# Altium footprint library B.PcbLib: 29 footprints (part 1 of 2)
Each footprint in its own frame and in the unit in brackets; x right, y up, seen from the top. Pads: shape width x height; smd on the part's side, far side on the other; paste and mask are expansions set on the pad; w line width, h text height; cw(c..) or ccw(c..) is an arc to the next point about the centre after c.
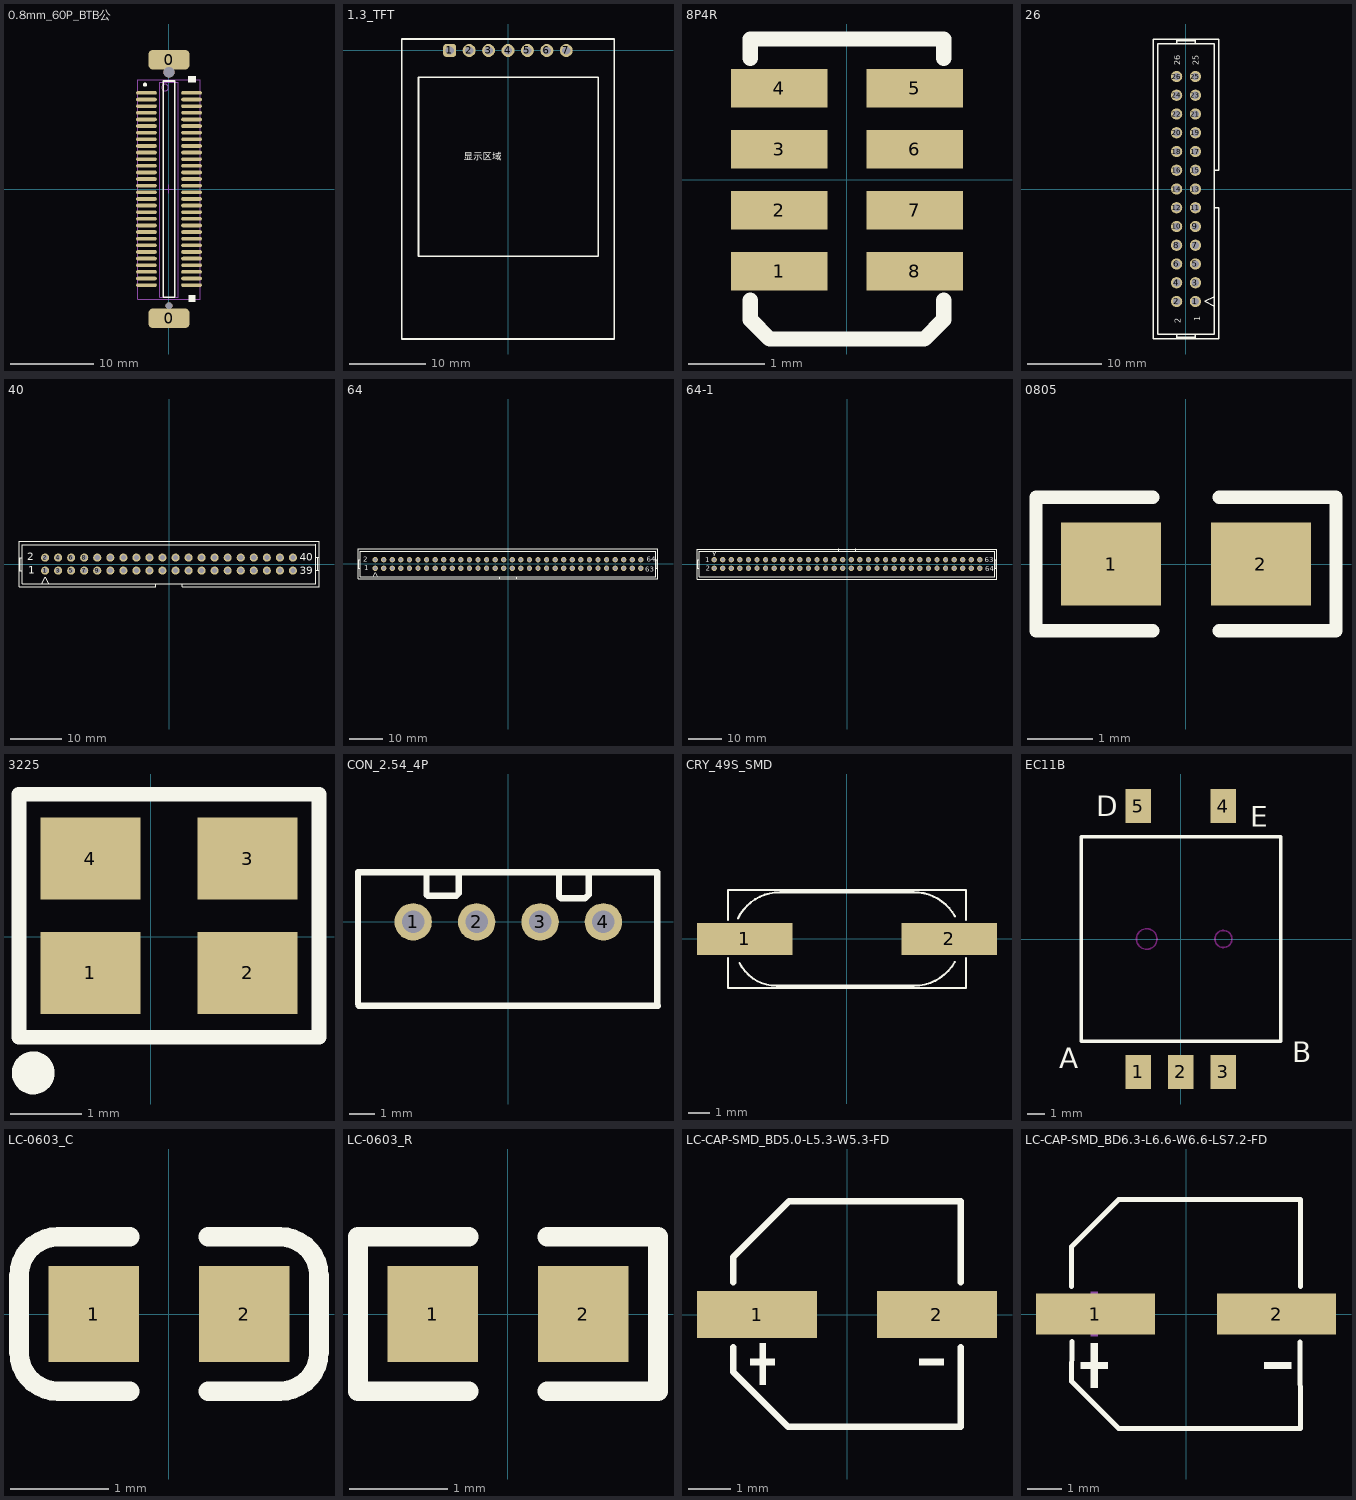
[diagram p0: the footprints below, top view; thin cyan lines are the x and y axes]

## 0.8mm_60P_BTB公 [mm] "0.8?"
height 2
pads (62):
  rrect50% 5x2.4 smd: 0(0,-15.6) 0(0,15.6)
  oval 2.5x0.45 smd: 1(2.725,-11.6) 2(2.725,-10.8) 3(2.725,-10) 4(2.725,-9.2) 5(2.725,-8.4) 6(2.725,-7.6) 7(2.725,-6.8) 8(2.725,-6) 9(2.725,-5.2) 10(2.725,-4.4) 11(2.725,-3.6) 12(2.725,-2.8) 13(2.725,-2) 14(2.725,-1.2) 15(2.725,-0.4) 16(2.725,0.4) 17(2.725,1.2) 18(2.725,2) 19(2.725,2.8) 20(2.725,3.6) 21(2.725,4.4) 22(2.725,5.2) 23(2.725,6) 24(2.725,6.8) 25(2.725,7.6) 26(2.725,8.4) 27(2.725,9.2) 28(2.725,10) 29(2.725,10.8) 30(2.725,11.6) 31(-2.725,11.6) 32(-2.725,10.8) 33(-2.725,10) 34(-2.725,9.2) 35(-2.725,8.4) 36(-2.725,7.6) 37(-2.725,6.8) 38(-2.725,6) 39(-2.725,5.2) 40(-2.725,4.4) 41(-2.725,3.6) 42(-2.725,2.8) 43(-2.725,2) 44(-2.725,1.2) 45(-2.725,0.4) 46(-2.725,-0.4) 47(-2.725,-1.2) 48(-2.725,-2) 49(-2.725,-2.8) 50(-2.725,-3.6) 51(-2.725,-4.4) 52(-2.725,-5.2) 53(-2.725,-6) 54(-2.725,-6.8) 55(-2.725,-7.6) 56(-2.725,-8.4) 57(-2.725,-9.2) 58(-2.725,-10) 59(-2.725,-10.8) 60(-2.725,-11.6)
via 0,14.1 diameter 1.3 hole 1.3
via 0,-14.1 diameter 0.8 hole 0.8
Top Overlay:
  circle w0.25: c-2.894,12.593 r0.125
  rectangle: 2.311,12.827 3.277,13.665
  rectangle: 2.337,-13.62 3.226,-12.807
  lines w0.2: -0.7,-13.05 0.7,-13.05 0.7,13.03 -0.7,13.03 -0.7,-13.05
Mechanical 13:
  circle w0.1: c-0.476,12.243 r0.4
  lines w0.1: -1.1,-13.05 1.1,-13.05 1.1,12.852 -1.1,12.852 -1.1,-13.05
Mechanical 15:
  lines w0.05: -3.8,-13.3 3.8,-13.3 3.8,13.183 -3.8,13.183 -3.8,-13.3
  lines w0.1: -0.5,0 0.5,0 ; 0,-0.508 0,0.492
3D body: height 2, standoff 0.1, extent -1.118,-13.05 1.1,11.755

## 1.3_TFT [mm] "240*240像?"
height 2
pads (7):
  rrect50% 1.699x1.699 hole 1.1 mask+0.051: 1(-7.62,0)
  round 1.699 hole 1.1 mask+0.051: 2(-5.08,0) 3(-2.54,0) 4(0,0) 5(2.54,0) 6(5.08,0) 7(7.62,0)
Top Overlay:
  lines w0.203: -13.89,-37.72 -13.89,1.5 13.89,1.5 13.89,-37.72 ; -13.89,-37.718 13.89,-37.718 ; -11.7,-26.9 -11.7,-3.5 11.7,-3.5 ; -11.675,-26.9 11.725,-26.9 ; 11.77,-26.9 11.77,-3.5
  text "显示区域" at -5.817,-14.624 h1.52

## 8P4R [mil]
pads (8):
  rect 50x20 smd: 1(-35,-47.24) 2(-35,-15.75) 3(-35,15.75) 4(-35,47.24) 5(35,47.24) 6(35,15.75) 7(35,-15.75) 8(35,-47.24)
Top Overlay:
  lines w8: -50,-62.24 -50,-72.24 -40,-82.24 40,-82.24 50,-72.24 50,-62.24 ; -50,62.76 -50,72.76 50,72.76 50,62.76

## 26 [mil]
pads (26):
  round 60 hole 39.37: 1(50,-600) 2(-50,-600) 3(50,-500) 4(-50,-500) 5(50,-400) 6(-50,-400) 7(50,-300) 8(-50,-300) 9(50,-200) 10(-50,-200) 11(50,-100) 12(-50,-100) 13(50,0) 14(-50,0) 15(50,100) 16(-50,100) 17(50,200) 18(-50,200) 19(50,300) 20(-50,300) 21(50,400) 22(-50,400) 23(50,500) 24(-50,500) 25(50,600) 26(-50,600)
Top Overlay:
  lines w7.87: 175,-800 175,-100 ; 175,100 175,800
  lines w8: -50,-800 -50,-775 ; -50,-791.67 50,-791.67 ; -50,775 -50,800 ; -50,791.67 50,791.67 ; 50,-800 50,-775 ; 50,775 50,800 ; 150,-775 -150,-775 -150,775 150,775 150,-774 ; 150,-625 100,-600 150,-575 ; 175,-800 -175,-800 -175,800 175,800 ; 175,-100 150,-100 150,100 175,100
  text "1" at 76,-706 h31.5
  text "2" at -29,-717 h31.5
  text "25" at 68,659 h31.5
  text "26" at -31,659 h31.5

## 40 [mil]
pads (40):
  round 62 hole 39.37: 1(-950,-50) 2(-950,50) 3(-850,-50) 4(-850,50) 5(-750,-50) 6(-750,50) 7(-650,-50) 8(-650,50) 9(-550,-50) 10(-550,50) 11(-450,-50) 12(-450,50) 13(-350,-50) 14(-350,50) 15(-250,-50) 16(-250,50) 17(-150,-50) 18(-150,50) 19(-50,-50) 20(-50,50) 21(50,-50) 22(50,50) 23(150,-50) 24(150,50) 25(250,-50) 26(250,50) 27(350,-50) 28(350,50) 29(450,-50) 30(450,50) 31(550,-50) 32(550,50) 33(650,-50) 34(650,50) 35(750,-50) 36(750,50) 37(850,-50) 38(850,50) 39(950,-50) 40(950,50)
Top Overlay:
  lines w7.87: -1150,-175 -100,-175 ; 100,-175 1150,-175
  lines w8: -1150,-175 -1150,175 1150,175 ; -1150,-50 -1125,-50 ; -1150,50 -1125,50 ; -1141.67,-50 -1141.67,50 ; -975,-150 -950,-100 -925,-150 ; -100,-175 -100,-150 100,-150 100,-175 ; 75,-150 1125,-150 ; 200,-150 -1125,-150 -1125,150 1125,150 ; 1125,-148 1125,152 ; 1125,-48 1150,-48 ; 1125,52 1150,52 ; 1141.67,-48 1141.67,52 ; 1150,-173 1150,177
  text "40" at 1003,25 h60
  text "39" at 1003,-78 h60
  text "2" at -1087,29 h60
  text "1" at -1078,-75 h60

## 64 [mil]
pads (64):
  round 62 hole 39.37: 1(-1550,-50) 2(-1550,50) 3(-1450,-50) 4(-1450,50) 5(-1350,-50) 6(-1350,50) 7(-1250,-50) 8(-1250,50) 9(-1150,-50) 10(-1150,50) 11(-1050,-50) 12(-1050,50) 13(-950,-50) 14(-950,50) 15(-850,-50) 16(-850,50) 17(-750,-50) 18(-750,50) 19(-650,-50) 20(-650,50) 21(-550,-50) 22(-550,50) 23(-450,-50) 24(-450,50) 25(-350,-50) 26(-350,50) 27(-250,-50) 28(-250,50) 29(-150,-50) 30(-150,50) 31(-50,-50) 32(-50,50) 33(50,-50) 34(50,50) 35(150,-50) 36(150,50) 37(250,-50) 38(250,50) 39(350,-50) 40(350,50) 41(450,-50) 42(450,50) 43(550,-50) 44(550,50) 45(650,-50) 46(650,50) 47(750,-50) 48(750,50) 49(850,-50) 50(850,50) 51(950,-50) 52(950,50) 53(1050,-50) 54(1050,50) 55(1150,-50) 56(1150,50) 57(1250,-50) 58(1250,50) 59(1350,-50) 60(1350,50) 61(1450,-50) 62(1450,50) 63(1550,-50) 64(1550,50)
Top Overlay:
  lines w7.87: -1750,-175 -600,-175 ; -597.91,-175 1748.62,-175
  lines w8: -1750,-175 -1750,175 1748.11,175 ; -1750,-50 -1725,-50 ; -1750,50 -1725,50 ; -1741.67,-50 -1741.67,50 ; -1575,-150 -1550,-100 -1525,-150 ; -525,-150 1723.89,-150 ; -400,-150 -1725,-150 -1725,150 1723.89,150 ; -97.88,-175.12 -97.88,-150.12 102.12,-150.12 102.12,-175.12 ; 1725,-150 1725,150 ; 1725,-50 1750,-50 ; 1725,50 1750,50 ; 1741.67,-50 1741.67,50 ; 1750,-175 1750,175
  text "1" at -1678,-75 h60
  text "2" at -1687,29 h60
  text "64" at 1617.87,28.57 h60
  text "63" at 1603.22,-90.07 h60

## 64-1 [mil]
pads (64):
  round 62 hole 39.37: 1(-1550,50) 2(-1550,-50) 3(-1450,50) 4(-1450,-50) 5(-1350,50) 6(-1350,-50) 7(-1250,50) 8(-1250,-50) 9(-1150,50) 10(-1150,-50) 11(-1050,50) 12(-1050,-50) 13(-950,50) 14(-950,-50) 15(-850,50) 16(-850,-50) 17(-750,50) 18(-750,-50) 19(-650,50) 20(-650,-50) 21(-550,50) 22(-550,-50) 23(-450,50) 24(-450,-50) 25(-350,50) 26(-350,-50) 27(-250,50) 28(-250,-50) 29(-150,50) 30(-150,-50) 31(-50,50) 32(-50,-50) 33(50,50) 34(50,-50) 35(150,50) 36(150,-50) 37(250,50) 38(250,-50) 39(350,50) 40(350,-50) 41(450,50) 42(450,-50) 43(550,50) 44(550,-50) 45(650,50) 46(650,-50) 47(750,50) 48(750,-50) 49(850,50) 50(850,-50) 51(950,50) 52(950,-50) 53(1050,50) 54(1050,-50) 55(1150,50) 56(1150,-50) 57(1250,50) 58(1250,-50) 59(1350,50) 60(1350,-50) 61(1450,50) 62(1450,-50) 63(1550,50) 64(1550,-50)
Top Overlay:
  lines w7.87: -1750,175 -600,175 ; -597.91,175 1748.62,175
  lines w8: -1750,-50 -1725,-50 ; -1750,50 -1725,50 ; -1750,175 -1750,-175 1748.11,-175 ; -1741.67,-50 -1741.67,50 ; -1575,150 -1550,100 -1525,150 ; -525,150 1723.89,150 ; -400,150 -1725,150 -1725,-150 1723.89,-150 ; -97.88,175.12 -97.88,150.12 102.12,150.12 102.12,175.12 ; 1725,-150 1725,150 ; 1725,-50 1750,-50 ; 1725,50 1750,50 ; 1741.67,-50 1741.67,50 ; 1750,-175 1750,175
  text "63" at 1604.32,20.61 h60
  text "64" at 1612.8,-84.83 h60
  text "2" at -1650.35,-78.68 h60
  text "1" at -1651.88,19.83 h60

## 0805 [mil]
pads (2):
  rect 60x50 smd: 1(-45,0) 2(45,0)
Top Overlay:
  lines w8: -20,-40 -90,-40 -90,40 -20,40 ; 20,-40 90,-40 90,40 20,40

## 3225 [mm]
pads (4):
  rect 1.4x1.15 smd: 1(-0.846,-0.507) 2(1.354,-0.507) 3(1.354,1.093) 4(-0.846,1.093)
Top Overlay:
  circle w0.3: c-1.646,-1.907 r0.15
  lines w0.203: -1.846,-1.407 -1.846,1.993 2.354,1.993 2.354,-1.407 -1.846,-1.407
3D body: height 0.61, standoff 0, extent -1.346,-0.957 1.854,1.543

## CON_2.54_4P [mm]
height 2
pads (4):
  round 1.5 hole 0.9: 1(-3.81,0) 2(-1.27,0) 3(1.27,0) 4(3.81,0)
Top Overlay:
  lines w0.254: -6.02,-3.277 -6.02,1.981 5.969,1.981 5.969,-3.302 ; -5.994,-3.353 5.994,-3.353 ; -3.277,1.981 -3.277,1.092 -3.226,1.041 -2.083,1.041 -1.981,1.143 -1.981,1.956 ; 2.032,1.956 2.032,1.016 2.108,0.94 3.073,0.94 3.226,1.092 3.226,1.956

## CRY_49S_SMD [mm]
height 2
pads (2):
  rect 4.5x1.5 smd: 1(-4.8,0) 2(4.8,0)
Top Overlay:
  lines w0.1: -5.6,-0.901 -5.6,-2.3 5.6,-2.3 5.6,-0.901 ; -5.6,0.889 -5.6,2.3 5.6,2.3 5.6,0.901 ; -5.123,0.974 cw(c-3.15,0) -3.15,2.2 3.15,2.2 cw(c3.15,0) 5.073,1.069 ; -5.047,-1.127 ccw(c-3.319,-0.272) -3.319,-2.2 3.15,-2.2 ccw(c3.15,0) 5.067,-1.08

## EC11B [mm] "编?"
pads (5):
  rect 1.5x2 smd: 1(-2.5,-7.8) 2(0,-7.8) 3(2.5,-7.8) 4(2.5,7.8) 5(-2.5,7.8)
Top Overlay:
  lines w0.2: -5.85,-6 -5.85,6 5.85,6 5.85,-6 -5.85,-6
  text "E" at 4.072,6.594 h1.2
  text "D" at -4.949,7.189 h1.2
  text "B" at 6.529,-7.219 h1.2
  text "A" at -7.122,-7.587 h1.2
Keep-Out Layer:
  circle w0.1: c2.5,0 r0.5
  circle w0.1: c-2,0 r0.6

## LC-0603_C [mm]
height 2
pads (2):
  rect 0.93x0.98 smd: 1(-0.77,0) 2(0.77,0)
Top Overlay:
  lines w0.2: -0.4,-0.79 -1.135,-0.79 cw(c-1.135,-0.39) -1.535,-0.39 -1.535,0.39 cw(c-1.135,0.39) -1.135,0.79 -0.4,0.79 ; 0.4,-0.79 1.135,-0.79 ccw(c1.135,-0.39) 1.535,-0.39 1.535,0.39 ccw(c1.135,0.39) 1.135,0.79 0.4,0.79
3D body: height 0.3, standoff 0, extent -0.8,-0.4 0.8,0.4

## LC-0603_R [mm]
height 2
pads (2):
  rect 0.93x0.98 smd: 1(-0.77,0) 2(0.77,0)
Top Overlay:
  lines w0.2: -0.4,-0.79 -1.535,-0.79 -1.535,0.79 -0.4,0.79 ; 0.4,-0.79 1.535,-0.79 1.535,0.79 0.4,0.79
3D body: height 0.56, standoff 0, extent -0.85,-0.4 0.85,0.4

## LC-CAP-SMD_BD5.0-L5.3-W5.3-FD [mm]
height 2
pads (2):
  rect 2.8x1.1 smd: 1(-2.1,0) 2(2.1,0)
Top Overlay:
  region: -2.04,-0.67 -2.04,-1.63 -1.897,-1.63 -1.897,-0.67
  region: -2.256,-1.032 -2.256,-1.176 -1.68,-1.176 -1.68,-1.032
  region: 2.256,-1.032 2.256,-1.176 1.68,-1.176 1.68,-1.032
  lines w0.152: -2.659,-0.762 -2.659,-1.331 -1.372,-2.619 2.649,-2.619 2.649,-0.762 ; -2.659,0.762 -2.659,1.341 -1.349,2.649 2.659,2.649 2.659,0.762
Mechanical 15:
  region: -2.04,0.48 -2.04,-0.48 -1.896,-0.48 -1.896,0.48
  region: -2.256,0.072 -2.256,-0.072 -1.68,-0.072 -1.68,0.072
  region: 2.256,0.072 2.256,-0.072 1.68,-0.072 1.68,0.072

## LC-CAP-SMD_BD6.3-L6.6-W6.6-LS7.2-FD [mm]
height 2
pads (2):
  rect 3.5x1.2 smd: 1(-2.67,0) 2(2.67,0)
Top Overlay:
  region: -2.805,-0.858 -2.805,-2.178 -2.607,-2.178 -2.607,-0.858
  region: -3.102,-1.419 -3.102,-1.617 -2.31,-1.617 -2.31,-1.419
  region: 3.102,-1.419 3.102,-1.617 2.31,-1.617 2.31,-1.419
  lines w0.152: -3.376,0.816 -3.376,1.98 -1.98,3.376 3.376,3.376 3.37,0.809 ; -3.364,-0.809 -3.376,-1.981 -1.981,-3.376 3.376,-3.376 3.356,-0.832
Mechanical 15:
  region: -2.805,0.66 -2.805,-0.66 -2.607,-0.66 -2.607,0.66
  region: -3.102,0.099 -3.102,-0.099 -2.31,-0.099 -2.31,0.099
  region: 3.102,0.099 3.102,-0.099 2.31,-0.099 2.31,0.099